# Altium integrated library Linear Technology Power Management Switching Regulator LTC1174-LTC3901.IntLib: 2647 symbols (part 245 of 364)
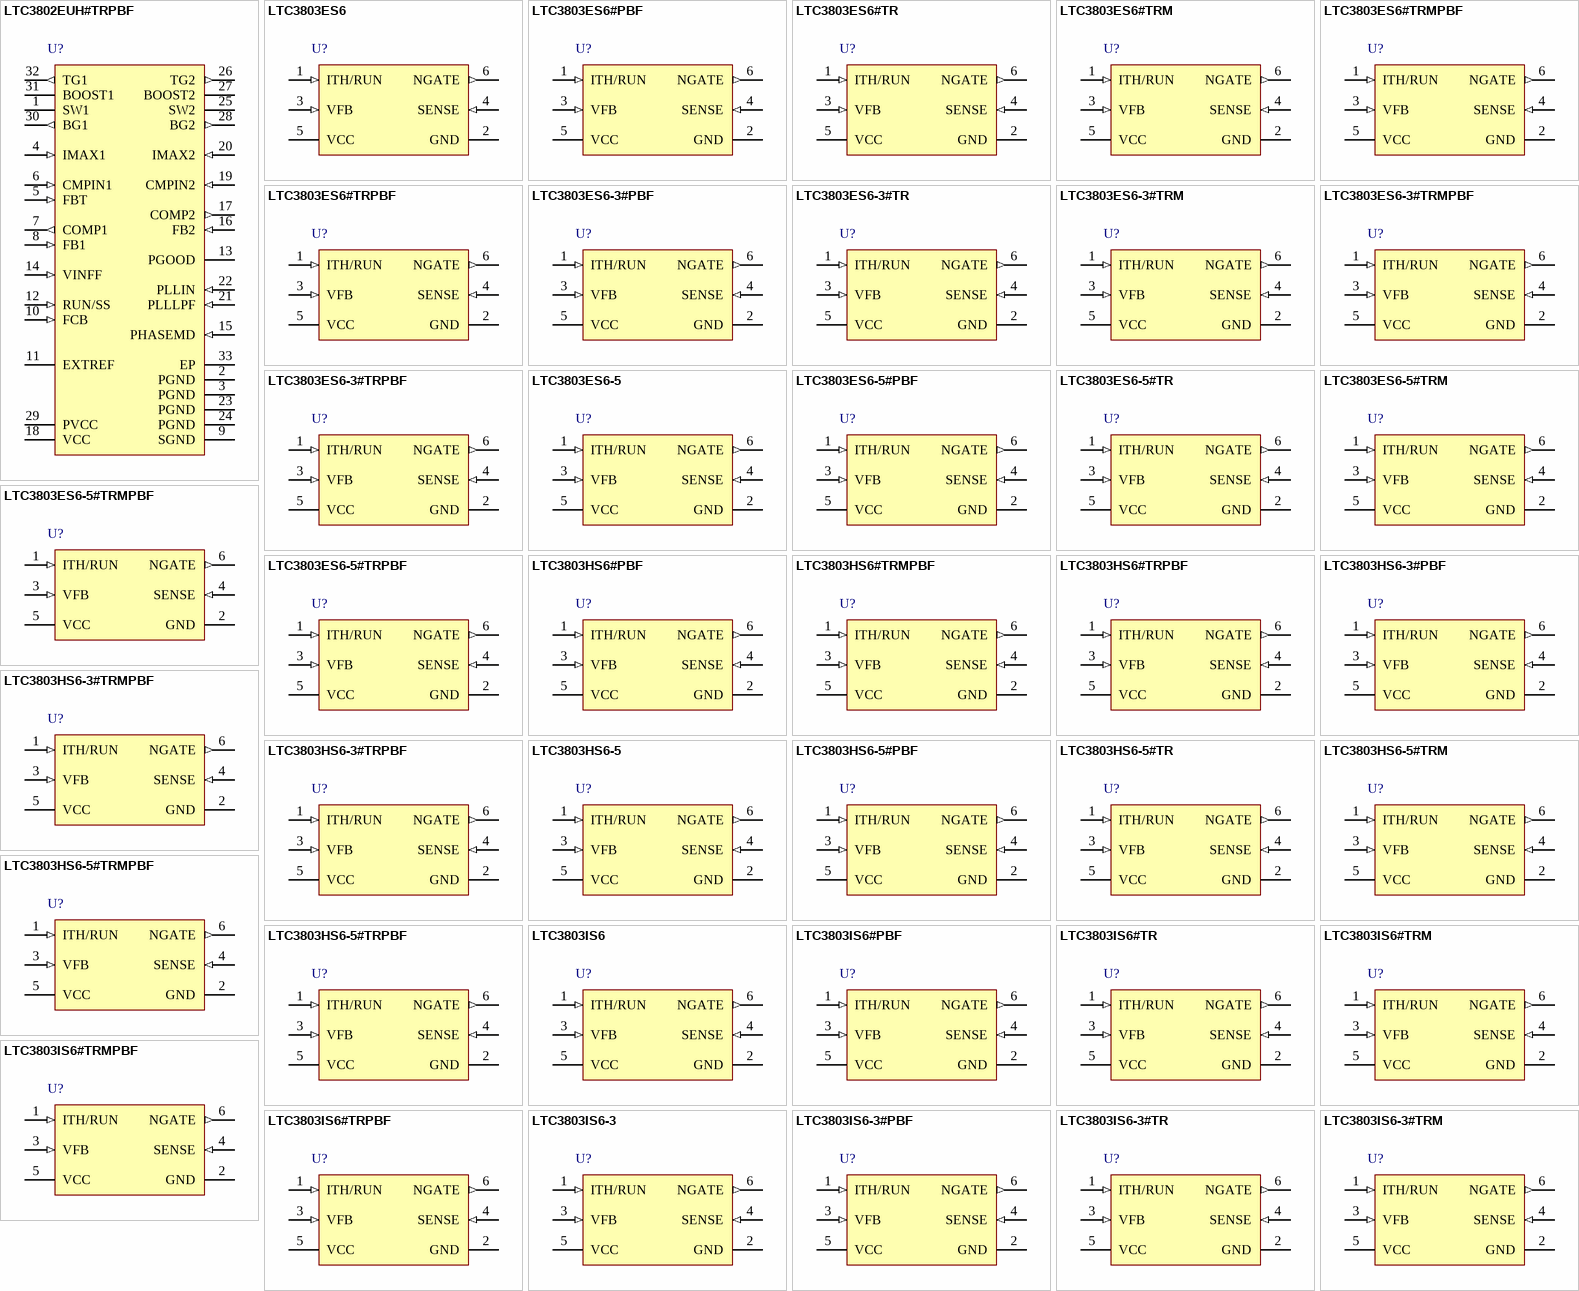
[diagram p341: symbols LTC3802EUH#TRPBF to LTC3803IS6-3#TRM]

## LTC3803ES6-5#TRMPBF
designator U?
Constant Frequency Current Mode Flyback DC/DC Controller, 6-pin SOT23 (S6-6), -40 to 125 degC, Pb-Free, Mini Tape and Reel; Manufacturer: Linear Technology; PartNumber: LTC3803ES6-5#TRMPBF; Number of Outputs: 1; DatasheetVersion: Rev. D; PackageVersion: Jun-10; PackageReference: S6-6; PackageDescription: 6-Pin Plastic TSOT-23, Body 2.9 x 1.63 mm, Pitch 0.95 mm; Supplier 1: Digi-Key; Supplier Part Number 1: LTC3803ES6-5#TRMPBF-ND; Packing: Mini Tape and Reel; RoHS: TRUE; Mounting Technology: Surface Mount; Code_JEDEC: MO-193; ComponentLink1Description: Manufacturer URL; ComponentLink1URL: http://www.linear.com/; ComponentLink2Description: Datasheet; ComponentLink2URL: http://cds.linear.com/docs/en/datasheet/38035fc.pdf; ComponentLink3Description: Package Specification; ComponentLink3URL: http://cds.linear.com/docs/en/packaging/SOT_6_05-08-1636.pdf
footprint LT-S6-6-TSOT-23_N (SOT23, 6-Leads, Body 2.9x1.75mm, Pitch 0.95mm, IPC Medium Density)
footprint LT-S6-6-TSOT-23_L (SOT23, 6-Leads, Body 2.9x1.75mm, Pitch 0.95mm, IPC High Density)
footprint LT-S6-6-TSOT-23_M (SOT23, 6-Leads, Body 2.9x1.75mm, Pitch 0.95mm, IPC Low Density)
pins: 1 ITH/RUN (in), 2 GND (power) "Ground Pin.", 3 VFB (in) "Receives the feedback voltage from an external resistive divider across the output.", 4 SENSE (in) "This pin performs two functions. It monitors switch current by reading the voltage across an external current sense resistor to ground. It also injects a current ramp that develops slope compensation voltage across an (See Datasheet)", 5 VCC (power) "Supply Pin. Must be closely decoupled to GND (Pin 2).", 6 NGATE (out) "Gate Drive for the External N-channel MOSFET. This pin swings from 0V to VCC."

## LTC3803ES6-5#TRPBF
designator U?
Constant Frequency Current Mode Flyback DC/DC Controller, 6-pin SOT23 (S6-6), -40 to 125 degC, Pb-Free, Tape and Reel; Manufacturer: Linear Technology; PartNumber: LTC3803ES6-5#TRPBF; Number of Outputs: 1; DatasheetVersion: Rev. D; PackageVersion: Jun-10; PackageReference: S6-6; PackageDescription: 6-Pin Plastic TSOT-23, Body 2.9 x 1.63 mm, Pitch 0.95 mm; Supplier 1: Digi-Key; Supplier Part Number 1: LTC3803ES6-5#TRPBF-ND; Supplier 2: Newark; Supplier Part Number 2: 56M8443; Packing: Tape and Reel; RoHS: TRUE; Mounting Technology: Surface Mount; Code_JEDEC: MO-193; ComponentLink1Description: Manufacturer URL; ComponentLink1URL: http://www.linear.com/; ComponentLink2Description: Datasheet; ComponentLink2URL: http://cds.linear.com/docs/en/datasheet/38035fc.pdf; ComponentLink3Description: Package Specification; ComponentLink3URL: http://cds.linear.com/docs/en/packaging/SOT_6_05-08-1636.pdf
footprint LT-S6-6-TSOT-23_N (SOT23, 6-Leads, Body 2.9x1.75mm, Pitch 0.95mm, IPC Medium Density)
footprint LT-S6-6-TSOT-23_L (SOT23, 6-Leads, Body 2.9x1.75mm, Pitch 0.95mm, IPC High Density)
footprint LT-S6-6-TSOT-23_M (SOT23, 6-Leads, Body 2.9x1.75mm, Pitch 0.95mm, IPC Low Density)
pins: 1 ITH/RUN (in), 2 GND (power) "Ground Pin.", 3 VFB (in) "Receives the feedback voltage from an external resistive divider across the output.", 4 SENSE (in) "This pin performs two functions. It monitors switch current by reading the voltage across an external current sense resistor to ground. It also injects a current ramp that develops slope compensation voltage across an (See Datasheet)", 5 VCC (power) "Supply Pin. Must be closely decoupled to GND (Pin 2).", 6 NGATE (out) "Gate Drive for the External N-channel MOSFET. This pin swings from 0V to VCC."

## LTC3803HS6#PBF
designator U?
Constant Frequency Current Mode Flyback DC/DC Controller, 6-pin SOT23 (S6-6), -40 to 150 degC, Pb-Free; Manufacturer: Linear Technology; PartNumber: LTC3803HS6#PBF; Number of Outputs: 1; DatasheetVersion: Rev. C; PackageVersion: Jun-10; PackageReference: S6-6; PackageDescription: 6-Pin Plastic TSOT-23, Body 2.9 x 1.63 mm, Pitch 0.95 mm; Supplier 1: Newark; Supplier Part Number 1: 51P3118; RoHS: TRUE; Mounting Technology: Surface Mount; Code_JEDEC: MO-193; ComponentLink1Description: Manufacturer URL; ComponentLink1URL: http://www.linear.com/; ComponentLink2Description: Datasheet; ComponentLink2URL: http://cds.linear.com/docs/en/datasheet/3803fc.pdf; ComponentLink3Description: Package Specification; ComponentLink3URL: http://cds.linear.com/docs/en/packaging/SOT_6_05-08-1636.pdf
footprint LT-S6-6-TSOT-23_N (SOT23, 6-Leads, Body 2.9x1.75mm, Pitch 0.95mm, IPC Medium Density)
footprint LT-S6-6-TSOT-23_L (SOT23, 6-Leads, Body 2.9x1.75mm, Pitch 0.95mm, IPC High Density)
footprint LT-S6-6-TSOT-23_M (SOT23, 6-Leads, Body 2.9x1.75mm, Pitch 0.95mm, IPC Low Density)
pins: 1 ITH/RUN (in), 2 GND (power) "Ground Pin.", 3 VFB (in) "Receives the feedback voltage from an external resistive divider across the output.", 4 SENSE (in) "This pin performs two functions. It monitors switch current by reading the voltage across an external current sense resistor to ground. It also injects a current ramp that develops slope compensation voltage across an (See Datasheet)", 5 VCC (power) "Supply Pin. Must be closely decoupled to GND (Pin 2).", 6 NGATE (out) "Gate Drive for the External N-channel MOSFET. This pin swings from 0V to VCC."

## LTC3803HS6#TRMPBF
designator U?
Constant Frequency Current Mode Flyback DC/DC Controller, 6-pin SOT23 (S6-6), -40 to 150 degC, Pb-Free, Mini Tape and Reel; Manufacturer: Linear Technology; PartNumber: LTC3803HS6#TRMPBF; Number of Outputs: 1; DatasheetVersion: Rev. C; PackageVersion: Jun-10; PackageReference: S6-6; PackageDescription: 6-Pin Plastic TSOT-23, Body 2.9 x 1.63 mm, Pitch 0.95 mm; Supplier 1: Digi-Key; Supplier Part Number 1: LTC3803HS6#TRMPBFTR-ND; Supplier 2: Digi-Key; Supplier Part Number 2: LTC3803HS6#TRMPBFCT-ND; Supplier 3: Digi-Key; Supplier Part Number 3: LTC3803HS6#TRMPBFDKR-ND; Supplier 4: Farnell; Supplier Part Number 4: 1696246; Supplier 5: Newark; Supplier Part Number 5: 51P4594; Packing: Mini Tape and Reel; RoHS: TRUE; Mounting Technology: Surface Mount; Code_JEDEC: MO-193; ComponentLink1Description: Manufacturer URL; ComponentLink1URL: http://www.linear.com/; ComponentLink2Description: Datasheet; ComponentLink2URL: http://cds.linear.com/docs/en/datasheet/3803fc.pdf; ComponentLink3Description: Package Specification; ComponentLink3URL: http://cds.linear.com/docs/en/packaging/SOT_6_05-08-1636.pdf
footprint LT-S6-6-TSOT-23_N (SOT23, 6-Leads, Body 2.9x1.75mm, Pitch 0.95mm, IPC Medium Density)
footprint LT-S6-6-TSOT-23_L (SOT23, 6-Leads, Body 2.9x1.75mm, Pitch 0.95mm, IPC High Density)
footprint LT-S6-6-TSOT-23_M (SOT23, 6-Leads, Body 2.9x1.75mm, Pitch 0.95mm, IPC Low Density)
pins: 1 ITH/RUN (in), 2 GND (power) "Ground Pin.", 3 VFB (in) "Receives the feedback voltage from an external resistive divider across the output.", 4 SENSE (in) "This pin performs two functions. It monitors switch current by reading the voltage across an external current sense resistor to ground. It also injects a current ramp that develops slope compensation voltage across an (See Datasheet)", 5 VCC (power) "Supply Pin. Must be closely decoupled to GND (Pin 2).", 6 NGATE (out) "Gate Drive for the External N-channel MOSFET. This pin swings from 0V to VCC."

## LTC3803HS6#TRPBF
designator U?
Constant Frequency Current Mode Flyback DC/DC Controller, 6-pin SOT23 (S6-6), -40 to 150 degC, Pb-Free, Tape and Reel; Manufacturer: Linear Technology; PartNumber: LTC3803HS6#TRPBF; Number of Outputs: 1; DatasheetVersion: Rev. C; PackageVersion: Jun-10; PackageReference: S6-6; PackageDescription: 6-Pin Plastic TSOT-23, Body 2.9 x 1.63 mm, Pitch 0.95 mm; Supplier 1: Digi-Key; Supplier Part Number 1: LTC3803HS6#TRPBF-ND; Packing: Tape and Reel; RoHS: TRUE; Mounting Technology: Surface Mount; Code_JEDEC: MO-193; ComponentLink1Description: Manufacturer URL; ComponentLink1URL: http://www.linear.com/; ComponentLink2Description: Datasheet; ComponentLink2URL: http://cds.linear.com/docs/en/datasheet/3803fc.pdf; ComponentLink3Description: Package Specification; ComponentLink3URL: http://cds.linear.com/docs/en/packaging/SOT_6_05-08-1636.pdf
footprint LT-S6-6-TSOT-23_N (SOT23, 6-Leads, Body 2.9x1.75mm, Pitch 0.95mm, IPC Medium Density)
footprint LT-S6-6-TSOT-23_L (SOT23, 6-Leads, Body 2.9x1.75mm, Pitch 0.95mm, IPC High Density)
footprint LT-S6-6-TSOT-23_M (SOT23, 6-Leads, Body 2.9x1.75mm, Pitch 0.95mm, IPC Low Density)
pins: 1 ITH/RUN (in), 2 GND (power) "Ground Pin.", 3 VFB (in) "Receives the feedback voltage from an external resistive divider across the output.", 4 SENSE (in) "This pin performs two functions. It monitors switch current by reading the voltage across an external current sense resistor to ground. It also injects a current ramp that develops slope compensation voltage across an (See Datasheet)", 5 VCC (power) "Supply Pin. Must be closely decoupled to GND (Pin 2).", 6 NGATE (out) "Gate Drive for the External N-channel MOSFET. This pin swings from 0V to VCC."

## LTC3803HS6-3#PBF
designator U?
Constant Frequency Current Mode Flyback DC/DC Controller, 6-pin SOT23 (S6-6), -40 to 150 degC, Pb-Free; Manufacturer: Linear Technology; PartNumber: LTC3803HS6-3#PBF; Number of Outputs: 1; DatasheetVersion: Rev. D; PackageVersion: Jun-10; PackageReference: S6-6; PackageDescription: 6-Pin Plastic TSOT-23, Body 2.9 x 1.63 mm, Pitch 0.95 mm; RoHS: TRUE; Mounting Technology: Surface Mount; Code_JEDEC: MO-193; ComponentLink1Description: Manufacturer URL; ComponentLink1URL: http://www.linear.com/; ComponentLink2Description: Datasheet; ComponentLink2URL: http://cds.linear.com/docs/en/datasheet/38033fd.pdf; ComponentLink3Description: Package Specification; ComponentLink3URL: http://cds.linear.com/docs/en/packaging/SOT_6_05-08-1636.pdf
footprint LT-S6-6-TSOT-23_N (SOT23, 6-Leads, Body 2.9x1.75mm, Pitch 0.95mm, IPC Medium Density)
footprint LT-S6-6-TSOT-23_L (SOT23, 6-Leads, Body 2.9x1.75mm, Pitch 0.95mm, IPC High Density)
footprint LT-S6-6-TSOT-23_M (SOT23, 6-Leads, Body 2.9x1.75mm, Pitch 0.95mm, IPC Low Density)
pins: 1 ITH/RUN (in), 2 GND (power) "Ground Pin.", 3 VFB (in) "Receives the feedback voltage from an external resistive divider across the output.", 4 SENSE (in) "This pin performs two functions. It monitors switch current by reading the voltage across an external current sense resistor to ground. It also injects a current ramp that develops slope compensation voltage across an (See Datasheet)", 5 VCC (power) "Supply Pin. Must be closely decoupled to GND (Pin 2).", 6 NGATE (out) "Gate Drive for the External N-channel MOSFET. This pin swings from 0V to VCC."

## LTC3803HS6-3#TRMPBF
designator U?
Constant Frequency Current Mode Flyback DC/DC Controller, 6-pin SOT23 (S6-6), -40 to 150 degC, Pb-Free, Mini Tape and Reel; Manufacturer: Linear Technology; PartNumber: LTC3803HS6-3#TRMPBF; Number of Outputs: 1; DatasheetVersion: Rev. D; PackageVersion: Jun-10; PackageReference: S6-6; PackageDescription: 6-Pin Plastic TSOT-23, Body 2.9 x 1.63 mm, Pitch 0.95 mm; Supplier 1: Digi-Key; Supplier Part Number 1: LTC3803HS6-3#TRMPBF-ND; Packing: Mini Tape and Reel; RoHS: TRUE; Mounting Technology: Surface Mount; Code_JEDEC: MO-193; ComponentLink1Description: Manufacturer URL; ComponentLink1URL: http://www.linear.com/; ComponentLink2Description: Datasheet; ComponentLink2URL: http://cds.linear.com/docs/en/datasheet/38033fd.pdf; ComponentLink3Description: Package Specification; ComponentLink3URL: http://cds.linear.com/docs/en/packaging/SOT_6_05-08-1636.pdf
footprint LT-S6-6-TSOT-23_N (SOT23, 6-Leads, Body 2.9x1.75mm, Pitch 0.95mm, IPC Medium Density)
footprint LT-S6-6-TSOT-23_L (SOT23, 6-Leads, Body 2.9x1.75mm, Pitch 0.95mm, IPC High Density)
footprint LT-S6-6-TSOT-23_M (SOT23, 6-Leads, Body 2.9x1.75mm, Pitch 0.95mm, IPC Low Density)
pins: 1 ITH/RUN (in), 2 GND (power) "Ground Pin.", 3 VFB (in) "Receives the feedback voltage from an external resistive divider across the output.", 4 SENSE (in) "This pin performs two functions. It monitors switch current by reading the voltage across an external current sense resistor to ground. It also injects a current ramp that develops slope compensation voltage across an (See Datasheet)", 5 VCC (power) "Supply Pin. Must be closely decoupled to GND (Pin 2).", 6 NGATE (out) "Gate Drive for the External N-channel MOSFET. This pin swings from 0V to VCC."

## LTC3803HS6-3#TRPBF
designator U?
Constant Frequency Current Mode Flyback DC/DC Controller, 6-pin SOT23 (S6-6), -40 to 150 degC, Pb-Free, Tape and Reel; Manufacturer: Linear Technology; PartNumber: LTC3803HS6-3#TRPBF; Number of Outputs: 1; DatasheetVersion: Rev. D; PackageVersion: Jun-10; PackageReference: S6-6; PackageDescription: 6-Pin Plastic TSOT-23, Body 2.9 x 1.63 mm, Pitch 0.95 mm; Supplier 1: Digi-Key; Supplier Part Number 1: LTC3803HS6-3#TRPBF-ND; Packing: Tape and Reel; RoHS: TRUE; Mounting Technology: Surface Mount; Code_JEDEC: MO-193; ComponentLink1Description: Manufacturer URL; ComponentLink1URL: http://www.linear.com/; ComponentLink2Description: Datasheet; ComponentLink2URL: http://cds.linear.com/docs/en/datasheet/38033fd.pdf; ComponentLink3Description: Package Specification; ComponentLink3URL: http://cds.linear.com/docs/en/packaging/SOT_6_05-08-1636.pdf
footprint LT-S6-6-TSOT-23_N (SOT23, 6-Leads, Body 2.9x1.75mm, Pitch 0.95mm, IPC Medium Density)
footprint LT-S6-6-TSOT-23_L (SOT23, 6-Leads, Body 2.9x1.75mm, Pitch 0.95mm, IPC High Density)
footprint LT-S6-6-TSOT-23_M (SOT23, 6-Leads, Body 2.9x1.75mm, Pitch 0.95mm, IPC Low Density)
pins: 1 ITH/RUN (in), 2 GND (power) "Ground Pin.", 3 VFB (in) "Receives the feedback voltage from an external resistive divider across the output.", 4 SENSE (in) "This pin performs two functions. It monitors switch current by reading the voltage across an external current sense resistor to ground. It also injects a current ramp that develops slope compensation voltage across an (See Datasheet)", 5 VCC (power) "Supply Pin. Must be closely decoupled to GND (Pin 2).", 6 NGATE (out) "Gate Drive for the External N-channel MOSFET. This pin swings from 0V to VCC."

## LTC3803HS6-5
designator U?
Constant Frequency Current Mode Flyback DC/DC Controller, 6-pin SOT23 (S6-6), -40 to 150 degC; Manufacturer: Linear Technology; PartNumber: LTC3803HS6-5; Number of Outputs: 1; DatasheetVersion: Rev. D; PackageVersion: Jun-10; PackageReference: S6-6; PackageDescription: 6-Pin Plastic TSOT-23, Body 2.9 x 1.63 mm, Pitch 0.95 mm; RoHS: FALSE; Mounting Technology: Surface Mount; Code_JEDEC: MO-193; ComponentLink1Description: Manufacturer URL; ComponentLink1URL: http://www.linear.com/; ComponentLink2Description: Datasheet; ComponentLink2URL: http://cds.linear.com/docs/en/datasheet/38035fc.pdf; ComponentLink3Description: Package Specification; ComponentLink3URL: http://cds.linear.com/docs/en/packaging/SOT_6_05-08-1636.pdf
footprint LT-S6-6-TSOT-23_N (SOT23, 6-Leads, Body 2.9x1.75mm, Pitch 0.95mm, IPC Medium Density)
footprint LT-S6-6-TSOT-23_L (SOT23, 6-Leads, Body 2.9x1.75mm, Pitch 0.95mm, IPC High Density)
footprint LT-S6-6-TSOT-23_M (SOT23, 6-Leads, Body 2.9x1.75mm, Pitch 0.95mm, IPC Low Density)
pins: 1 ITH/RUN (in), 2 GND (power) "Ground Pin.", 3 VFB (in) "Receives the feedback voltage from an external resistive divider across the output.", 4 SENSE (in) "This pin performs two functions. It monitors switch current by reading the voltage across an external current sense resistor to ground. It also injects a current ramp that develops slope compensation voltage across an (See Datasheet)", 5 VCC (power) "Supply Pin. Must be closely decoupled to GND (Pin 2).", 6 NGATE (out) "Gate Drive for the External N-channel MOSFET. This pin swings from 0V to VCC."

## LTC3803HS6-5#PBF
designator U?
Constant Frequency Current Mode Flyback DC/DC Controller, 6-pin SOT23 (S6-6), -40 to 150 degC, Pb-Free; Manufacturer: Linear Technology; PartNumber: LTC3803HS6-5#PBF; Number of Outputs: 1; DatasheetVersion: Rev. D; PackageVersion: Jun-10; PackageReference: S6-6; PackageDescription: 6-Pin Plastic TSOT-23, Body 2.9 x 1.63 mm, Pitch 0.95 mm; Supplier 1: Newark; Supplier Part Number 1: 78T3248; RoHS: TRUE; Mounting Technology: Surface Mount; Code_JEDEC: MO-193; ComponentLink1Description: Manufacturer URL; ComponentLink1URL: http://www.linear.com/; ComponentLink2Description: Datasheet; ComponentLink2URL: http://cds.linear.com/docs/en/datasheet/38035fc.pdf; ComponentLink3Description: Package Specification; ComponentLink3URL: http://cds.linear.com/docs/en/packaging/SOT_6_05-08-1636.pdf
footprint LT-S6-6-TSOT-23_N (SOT23, 6-Leads, Body 2.9x1.75mm, Pitch 0.95mm, IPC Medium Density)
footprint LT-S6-6-TSOT-23_L (SOT23, 6-Leads, Body 2.9x1.75mm, Pitch 0.95mm, IPC High Density)
footprint LT-S6-6-TSOT-23_M (SOT23, 6-Leads, Body 2.9x1.75mm, Pitch 0.95mm, IPC Low Density)
pins: 1 ITH/RUN (in), 2 GND (power) "Ground Pin.", 3 VFB (in) "Receives the feedback voltage from an external resistive divider across the output.", 4 SENSE (in) "This pin performs two functions. It monitors switch current by reading the voltage across an external current sense resistor to ground. It also injects a current ramp that develops slope compensation voltage across an (See Datasheet)", 5 VCC (power) "Supply Pin. Must be closely decoupled to GND (Pin 2).", 6 NGATE (out) "Gate Drive for the External N-channel MOSFET. This pin swings from 0V to VCC."

## LTC3803HS6-5#TR
designator U?
Constant Frequency Current Mode Flyback DC/DC Controller, 6-pin SOT23 (S6-6), -40 to 150 degC, Tape and Reel; Manufacturer: Linear Technology; PartNumber: LTC3803HS6-5#TR; Number of Outputs: 1; DatasheetVersion: Rev. D; PackageVersion: Jun-10; PackageReference: S6-6; PackageDescription: 6-Pin Plastic TSOT-23, Body 2.9 x 1.63 mm, Pitch 0.95 mm; Packing: Tape and Reel; RoHS: FALSE; Mounting Technology: Surface Mount; Code_JEDEC: MO-193; ComponentLink1Description: Manufacturer URL; ComponentLink1URL: http://www.linear.com/; ComponentLink2Description: Datasheet; ComponentLink2URL: http://cds.linear.com/docs/en/datasheet/38035fc.pdf; ComponentLink3Description: Package Specification; ComponentLink3URL: http://cds.linear.com/docs/en/packaging/SOT_6_05-08-1636.pdf
footprint LT-S6-6-TSOT-23_N (SOT23, 6-Leads, Body 2.9x1.75mm, Pitch 0.95mm, IPC Medium Density)
footprint LT-S6-6-TSOT-23_L (SOT23, 6-Leads, Body 2.9x1.75mm, Pitch 0.95mm, IPC High Density)
footprint LT-S6-6-TSOT-23_M (SOT23, 6-Leads, Body 2.9x1.75mm, Pitch 0.95mm, IPC Low Density)
pins: 1 ITH/RUN (in), 2 GND (power) "Ground Pin.", 3 VFB (in) "Receives the feedback voltage from an external resistive divider across the output.", 4 SENSE (in) "This pin performs two functions. It monitors switch current by reading the voltage across an external current sense resistor to ground. It also injects a current ramp that develops slope compensation voltage across an (See Datasheet)", 5 VCC (power) "Supply Pin. Must be closely decoupled to GND (Pin 2).", 6 NGATE (out) "Gate Drive for the External N-channel MOSFET. This pin swings from 0V to VCC."